# Altium footprint library zener.PcbLib: 23 footprints (part 1 of 2)
Each footprint in its own frame and in the unit in brackets; x right, y up, seen from the top. Pads: shape width x height; smd on the part's side, far side on the other; paste and mask are expansions set on the pad; w line width, h text height; cw(c..) or ccw(c..) is an arc to the next point about the centre after c.
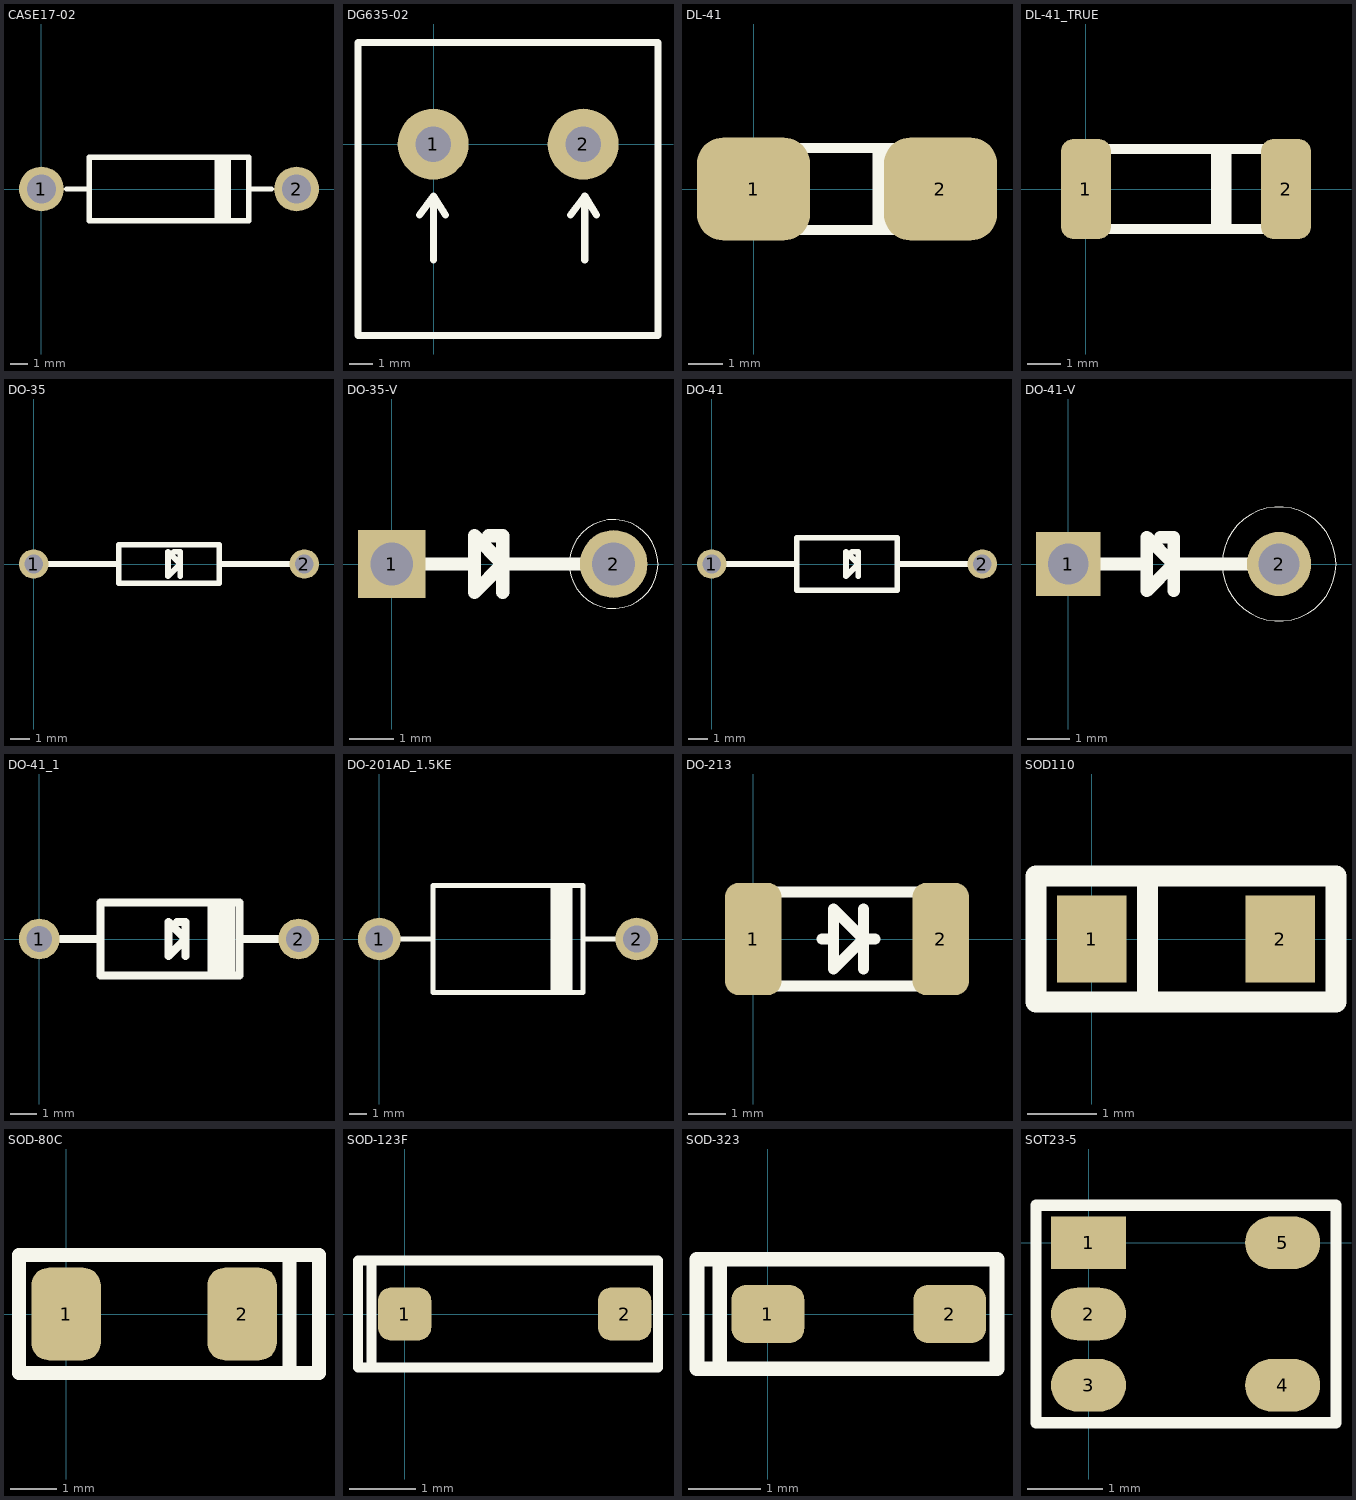
[diagram p0: the footprints below, top view; thin cyan lines are the x and y axes]

## CASE17-02 [mm]
pads (2):
  round 2.5 hole 1.6: 1(0,0) 2(14.224,0)
Top Overlay:
  region: 9.652,1.778 9.652,-1.778 10.541,-1.778 10.541,1.778
  lines w0.3: 1.397,0 2.667,0 ; 11.557,0 12.827,0 ; 2.667,-1.778 2.667,1.778 11.557,1.778 11.557,-1.778 2.667,-1.778

## DG635-02 [mm]
pads (2):
  round 3 hole 1.5: 1(-0.02,0) 2(6.33,0)
Top Overlay:
  lines w0.3: -0.6,-3 0,-2.2 ; 0,-4.9 0,-2.2 ; 0.5,-3 0,-2.2 ; 5.8,-3 6.4,-2.2 ; 6.4,-4.9 6.4,-2.2 ; 6.9,-3 6.4,-2.2 ; -3.2,-8.1 9.5,-8.1 9.5,4.3 -3.2,4.3 -3.2,-8.1

## DL-41 [mm]
pads (2):
  rrect50% 3.3x3 smd: 1(0,0) 2(5.461,0)
Top Overlay:
  region: 3.478,1.2 3.478,-1.2 4.078,-1.2 4.078,1.2
  lines w0.3: 0.238,-1.2 0.238,1.2 5.238,1.2 5.238,-1.2 0.238,-1.2
3D body "User Library-DL-41.SLDPRT": height 2.4, standoff 0, extent 0.229,-1.2 5.229,1.2

## DL-41_TRUE [mm]
pads (2):
  rrect50% 1.5x3 smd: 1(0,0) 2(6,0)
Top Overlay:
  region: 3.765,1.2 3.765,-1.2 4.365,-1.2 4.365,1.2
  lines w0.3: 0.525,-1.2 0.525,1.2 5.525,1.2 5.525,-1.2 0.525,-1.2

## DO-35 [mil]
pads (2):
  round 60 hole 38: 1(0,0) 2(551.18,0)
Top Overlay:
  lines w11.81: 0,0 173.03,0 ; 285.93,25 298.43,25 298.43,-25 ; 378.15,0 551.18,0 ; 173.03,-39.37 378.15,-39.37 378.15,39.37 173.03,39.37 173.03,-39.37 ; 273.43,-25 298.43,0 273.43,25 273.43,-25

## DO-35-V [mil]
pads (2):
  rect 60x60 hole 38: 1(0,0)
  round 60 hole 38: 2(196.85,0)
Top Overlay:
  circle w1: c196.85,0 r39.37
  lines w11.81: -1.57,0 73.43,0 ; 85.93,25 98.43,25 98.43,-25 ; 198.43,0 98.43,0 ; 98.43,0 73.43,-25 73.43,25 98.43,0

## DO-41 [mil]
pads (2):
  round 60 hole 38: 1(0,0) 2(551.18,0)
Top Overlay:
  lines w11.81: 0,0 173.03,0 ; 285.93,25 298.43,25 298.43,-25 ; 378.15,0 551.18,0 ; 173.03,-53.54 378.15,-53.54 378.15,53.54 173.03,53.54 173.03,-53.54 ; 273.43,-25 298.43,0 273.43,25 273.43,-25

## DO-41-V [mil]
pads (2):
  rect 60x60 hole 38: 1(0,0)
  round 60 hole 38: 2(196.85,0)
Top Overlay:
  circle w1: c196.85,0 r53.15
  lines w11.81: -1.57,0 73.43,0 ; 85.93,25 98.43,25 98.43,-25 ; 198.43,0 98.43,0 ; 98.43,0 73.43,25 73.43,-25 98.43,0

## DO-41_1 [mil]
pads (2):
  round 60 hole 38: 1(0,0) 2(382.68,0)
Top Overlay:
  region: 288.19,51.18 248.82,51.18 248.82,-51.18 288.19,-51.18
  lines w11.81: 32.28,0 90.35,0 ; 203.25,25 215.75,25 215.75,-25 ; 295.47,0 351.18,0 ; 90.35,-53.54 90.35,53.54 295.47,53.54 295.47,-53.54 90.35,-53.54 ; 190.75,-25 190.75,25 215.75,0 190.75,-25

## DO-201AD_1.5KE [mm]
pads (2):
  round 2.5 hole 1.6: 1(0,0) 2(15.12,0)
Top Overlay:
  region: 10.08,3.15 10.08,-3.15 11.34,-3.15 11.34,3.15
  lines w0.3: 1.26,0 3.15,0 ; 11.97,0 13.86,0 ; 3.15,-3.15 3.15,3.15 11.97,3.15 11.97,-3.15 3.15,-3.15

## DO-213 [mm]
pads (2):
  rrect50% 1.5x3 smd: 1(0,0) 2(5,0)
Top Overlay:
  lines w0.3: 1.84,0 2.14,0 ; 2.94,-0.8 2.94,0.8 ; 3.24,0 2.94,0 ; 2.14,0 2.14,-0.8 2.94,0 ; 2.14,0 2.14,0.8 2.94,0 ; 0,-1.25 5,-1.25 5,1.25 0,1.25 0,-1.25

## SOD110 [mm]
pads (2):
  rect 1x1.25 smd: 1(0,0) 2(2.7,0)
Top Overlay:
  lines w0.3: 0.8,-0.9 0.8,0.9 ; -0.8,-0.9 -0.8,0.9 3.5,0.9 ; -0.8,-0.9 3.5,-0.9 ; -0.8,-0.9 3.5,-0.9 ; 3.5,-0.9 3.5,0.9 ; 3.5,-0.9 3.5,0.9

## SOD-80C [mm]
pads (2):
  rrect50% 1.5x2 smd: 1(0,0) 2(3.8,0)
Top Overlay:
  lines w0.3: 4.953,-1.27 -1.016,-1.27 -1.016,1.27 4.953,1.27 ; 4.826,-1.27 4.826,1.27 5.461,1.27 5.461,-1.27 4.826,-1.27
3D body "User Library-MiniMelf-2.step": height 1.6, standoff 0, extent 0.085,-0.8 3.785,0.8

## SOD-123F [mm]
pads (2):
  rrect50% 0.8x0.8 smd: 1(0,0) 2(3.3,0)
Top Overlay:
  lines w0.15: -0.5,-0.8 -0.5,0.8 ; -0.5,-0.8 3.8,-0.8 3.8,0.8 -0.5,0.8 ; -0.5,-0.8 -0.7,-0.8 -0.7,0.8 -0.5,0.8
3D body "User Library-SOD123F.step": height 1.2, standoff -0.01, extent -0.2,-0.85 3.55,0.85

## SOD-323 [mm]
pads (2):
  rrect50% 1x0.8 smd: 1(0,0) 2(2.5,0)
Top Overlay:
  lines w0.2: -0.66,-0.635 -0.66,0.635 ; -0.975,-0.75 3.15,-0.75 3.15,0.75 -0.975,0.75 -0.975,-0.75
3D body "User Library-SOD323-1.step": height 1.1, standoff 0, extent -0.05,-0.675 2.55,0.675

## SOT23-5 [mm]
pads (5):
  rect 1x0.7 smd: 1(0,0)
  oval 1x0.7 smd: 2(0,-0.95) 3(0,-1.9) 4(2.59,-1.9) 5(2.59,0)
Top Overlay:
  lines w0.15: -0.7,-2.4 3.3,-2.4 3.3,0.5 -0.7,0.5 -0.7,-2.4